# EAGLE library part NAU7802_24BIT_I2C (library df4iah_adc)
NAU7802 24-Bit Dual-Channel ADC for Bridge Sensors I²C Interface
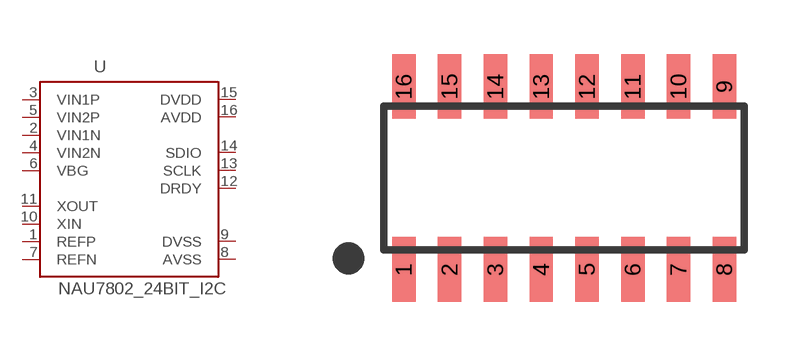
[diagram p3: symbol with the pads of LSOP16; footprint LSOP16]

Designator prefix U

## NAU7802_24BIT_I2C  [LSOP16]
1  REFP  pas
2  VIN1N  pas
3  VIN1P  pas
4  VIN2N  pas
5  VIN2P  pas
6  VBG  pas
7  REFN  pas
8  AVSS  pas
9  DVSS  pas
10  XIN  pas
11  XOUT  out
12  DRDY  out
13  SCLK  in
14  SDIO
15  DVDD  pwr
16  AVDD  pwr

## Footprint LSOP16 (pad centres in mm)
Small Outline Package 16L SOP - 150mil body: 150mil (3.80mm) width pitch: 50mil (1.27mm) package type: L
smd 0.65 x 1.8: 1 -4.445,-2.54; 2 -3.175,-2.54; 3 -1.905,-2.54; 4 -0.635,-2.54; 5 0.635,-2.54; 6 1.905,-2.54; 7 3.175,-2.54; 8 4.445,-2.54; 9 4.445,2.54; 10 3.175,2.54; 11 1.905,2.54; 12 0.635,2.54; 13 -0.635,2.54; 14 -1.905,2.54; 15 -3.175,2.54; 16 -4.445,2.54